# EAGLE library part AE-FT245RL (library mita-akiba)
FTDI USB to 8-bit parallel adapter IC
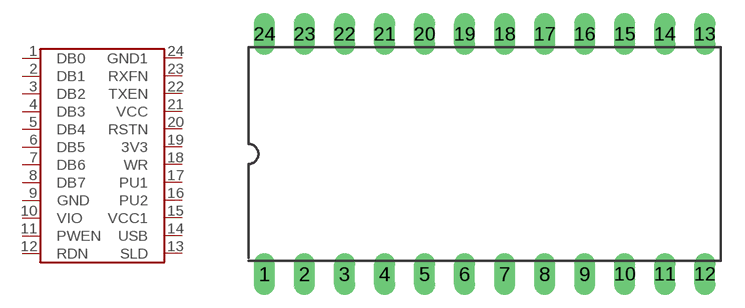
[diagram p50: symbol with the pads of DIL24-6; footprint DIL24-6]

Designator prefix -

## AE-FT245RL  [DIL24-6]
1  DB0
2  DB1
3  DB2
4  DB3
5  DB4
6  DB5
7  DB6
8  DB7
9  GND
10  VIO
11  PWEN
12  RDN
13  SLD
14  USB
15  VCC1
16  PU2
17  PU1
18  WR
19  3V3
20  RSTN
21  VCC
22  TXEN
23  RXFN
24  GND1

## Footprint DIL24-6 (pad centres in mm)
Dual In Line Package 0.6 inch
drill 0.813 long: 1 -13.97,-7.62; 2 -11.43,-7.62; 3 -8.89,-7.62; 4 -6.35,-7.62; 5 -3.81,-7.62; 6 -1.27,-7.62; 7 1.27,-7.62; 8 3.81,-7.62; 9 6.35,-7.62; 10 8.89,-7.62; 11 11.43,-7.62; 12 13.97,-7.62; 13 13.97,7.62; 14 11.43,7.62; 15 8.89,7.62; 16 6.35,7.62; 17 3.81,7.62; 18 1.27,7.62; 19 -1.27,7.62; 20 -3.81,7.62; 21 -6.35,7.62; 22 -8.89,7.62; 23 -11.43,7.62; 24 -13.97,7.62